# Altium footprint library TO-220-5(Forming).PcbLib: 1 footprints
Each footprint in its own frame and in the unit in brackets; x right, y up, seen from the top. Pads: shape width x height; smd on the part's side, far side on the other; paste and mask are expansions set on the pad; w line width, h text height; cw(c..) or ccw(c..) is an arc to the next point about the centre after c.
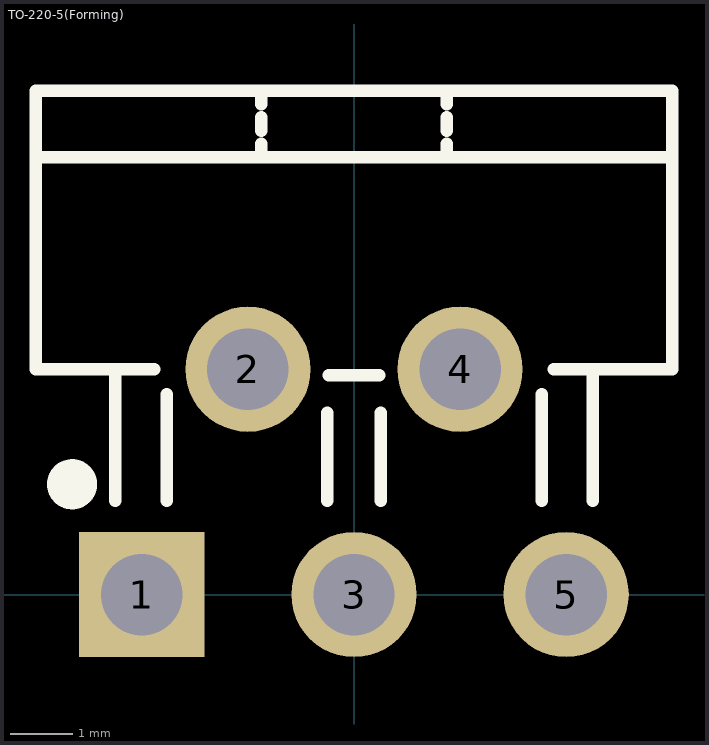
[diagram p0: the footprint, top view; thin cyan lines are the x and y axes]

## TO-220-5(Forming) [mm]
pads (5):
  rect 2x2 hole 1.3: 1(-3.387,0)
  round 2 hole 1.3: 2(-1.693,3.598) 3(0,0) 4(1.693,3.598) 5(3.387,0)
Top Overlay:
  circle w0.4: c-4.5,1.761 r0.2
  lines w0.2: -5.08,6.985 5.08,6.985 ; -3.81,1.5 -3.81,3.598 ; -3.187,3.598 -5.08,3.598 -5.08,8.043 5.08,8.043 5.08,3.598 3.187,3.598 ; -2.987,1.5 -2.987,3.2 ; -1.482,6.985 -1.482,7.197 ; -1.482,7.408 -1.482,7.62 ; -1.482,7.832 -1.482,8.043 ; -0.423,1.5 -0.423,2.9 ; 0.423,1.5 0.423,2.9 ; 1.482,6.985 1.482,7.197 ; 1.482,7.408 1.482,7.62 ; 1.482,7.832 1.482,8.043 ; 2.994,1.5 2.994,3.2 ; 3.81,1.5 3.81,3.598
  lines w0.203: -0.4,3.5 0.4,3.5